# Altium footprint library Altium Example Master PCB Library.PcbLib: 219 footprints (part 1 of 14)
Each footprint in its own frame and in the unit in brackets; x right, y up, seen from the top. Pads: shape width x height; smd on the part's side, far side on the other; paste and mask are expansions set on the pad; w line width, h text height; cw(c..) or ccw(c..) is an arc to the next point about the centre after c.
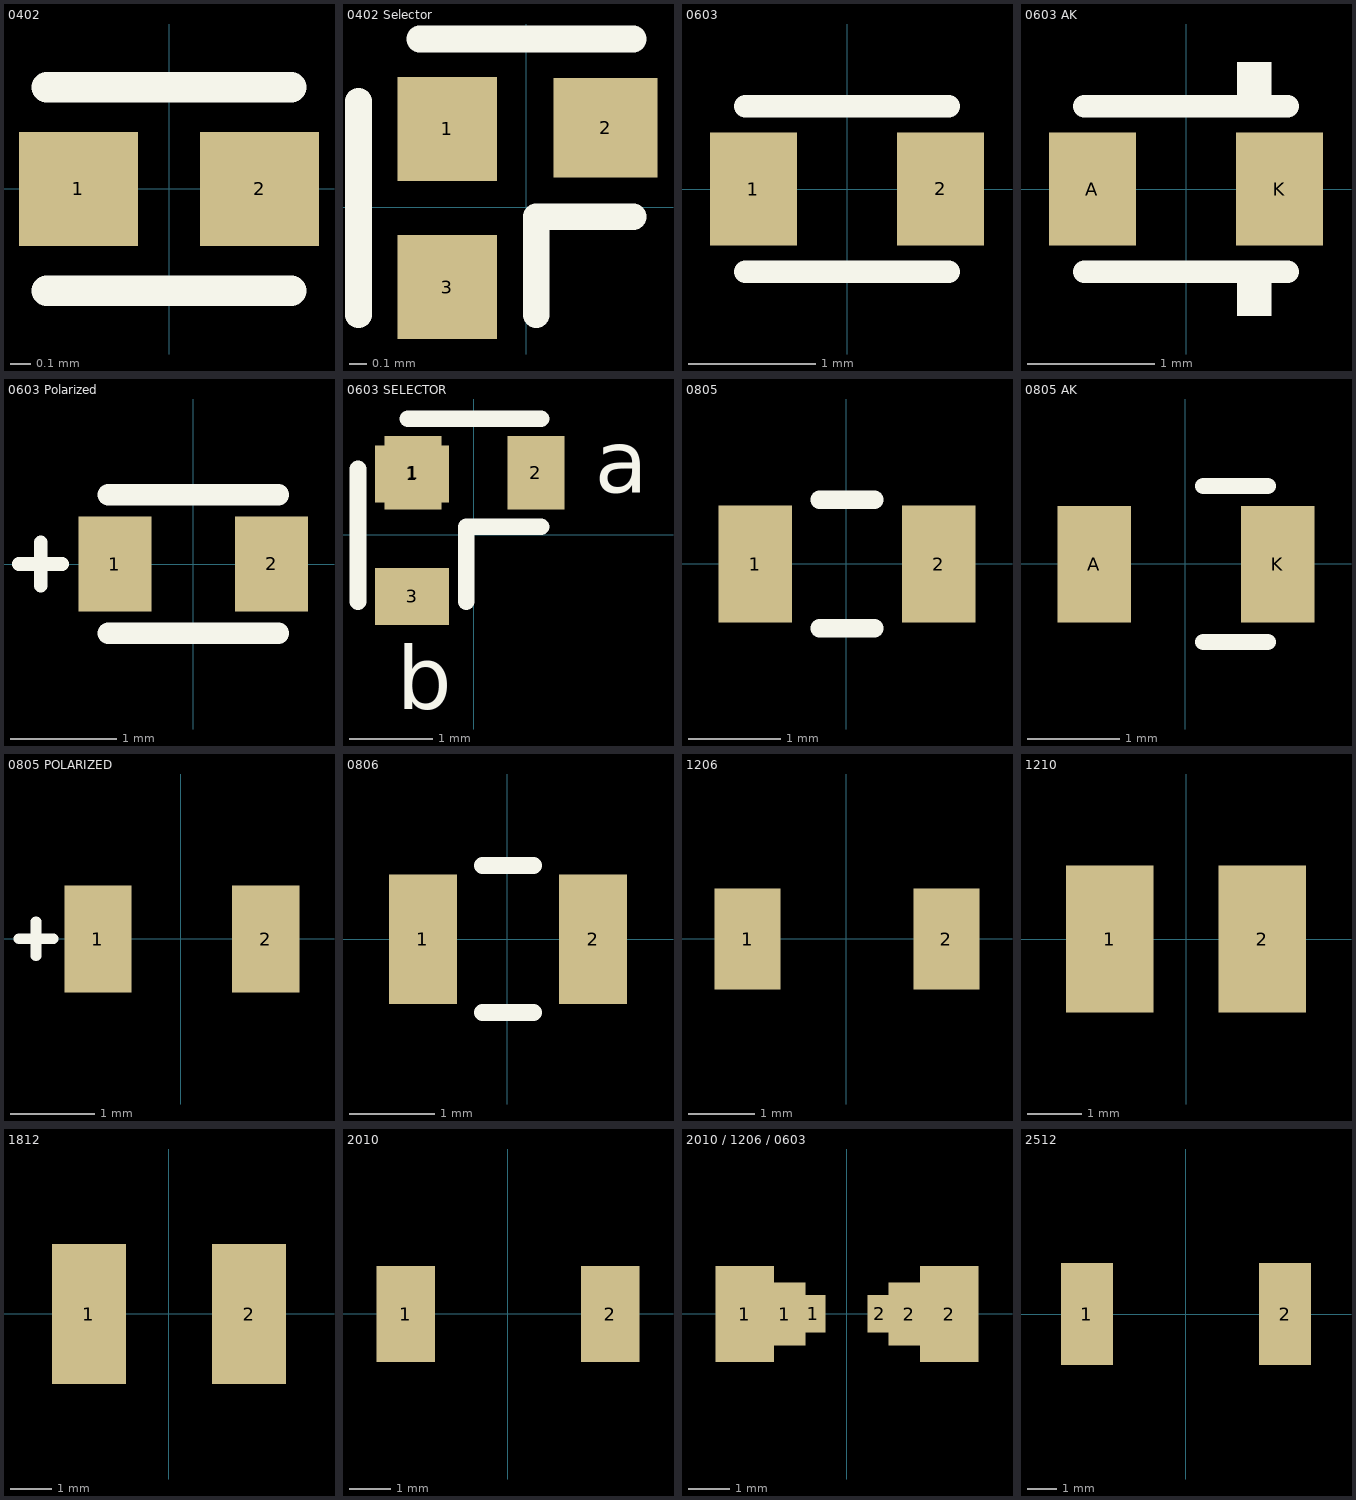
[diagram p0: the footprints below, top view; thin cyan lines are the x and y axes]

## 0402 [mil]
pads (2):
  rect 23x22 smd: 1(-17.5,0) 2(17.5,0)
Top Overlay:
  lines w5.91: -23.62,-19.68 23.62,-19.69 ; -23.62,19.68 23.62,19.68

## 0402 Selector [mil]
pads (3):
  rect 22x23 smd: 1(-17.5,17.39) 3(-17.5,-17.61)
  rect 23x22 smd: 2(17.5,17.61)
Top Overlay:
  lines w5.91: -37.19,-23.73 -37.19,23.51 ; -23.62,37.29 23.62,37.29 ; 2.19,-23.73 2.19,-2.08 23.62,-2.08

## 0603 [mil]
pads (2):
  rect 27x35 smd: 1(-29,0) 2(29,0)
Top Overlay:
  lines w7: -31.5,-25.59 31.5,-25.59 ; -31.5,25.59 31.5,25.59

## 0603 AK [mil]
pads (2):
  rect 27x35 smd: A(-29,0) K(29,0)
Top Overlay:
  rectangle: 15.75,25.59 26.57,39.37
  region: 26.57,-25.59 15.75,-25.59 15.75,-39.37 26.57,-39.37
  lines w7: -31.5,-25.59 31.5,-25.59 ; -31.5,25.59 31.5,25.59

## 0603 Polarized [mil]
pads (2):
  rect 27x35 smd: 1(-29,0) 2(29,0)
Top Overlay:
  lines w5: -64.5,0 -48.5,0 ; -56.5,-8 -56.5,8
  lines w7.87: -31.5,-25.59 31.5,-25.59 ; -31.5,25.59 31.5,25.59

## 0603 SELECTOR [mil]
pads (4):
  rect 35x27 smd: 1(-29.26,28.74) 3(-29.26,-29.26)
  rect 27x35 smd: 1(-28.74,29.26) 2(29.26,29.26)
Top Overlay:
  lines w7.87: -54.85,-31.76 -54.85,31.23 ; -31.23,54.85 31.76,54.85 ; -3.67,-31.76 -3.67,3.67 31.76,3.67
  text "a" at 57.09,19.68 h30
  text "b" at -36.42,-82.68 h30

## 0805 [mm]
pads (2):
  rect 0.8x1.27 smd: 1(-0.99,-0.003) 2(1.011,-0.003)
Top Overlay:
  lines w0.2: -0.289,-0.703 0.31,-0.703 ; -0.289,0.697 0.31,0.697

## 0805 AK [mm]
pads (2):
  rect 0.8x1.27 smd: A(-0.99,-0.003) K(1.011,-0.003)
Top Overlay:
  lines w0.178: 0.2,-0.85 0.9,-0.85 ; 0.2,0.85 0.9,0.85

## 0805 POLARIZED [mm]
pads (2):
  rect 0.8x1.27 smd: 1(-0.99,-0.003) 2(1.011,-0.003)
Top Overlay:
  lines w0.127: -1.93,0 -1.524,0 ; -1.727,-0.203 -1.727,0.203

## 0806 [mm]
pads (2):
  rect 0.8x1.524 smd: 1(-0.99,-0.003) 2(1.01,-0.003)
Top Overlay:
  lines w0.2: -0.29,-0.864 0.31,-0.864 ; -0.29,0.864 0.31,0.864

## 1206 [mm]
pads (2):
  rect 1x1.524 smd: 1(-1.489,-0.003) 2(1.51,-0.003)

## 1210 [mm]
pads (2):
  rect 1.6x2.7 smd: 1(-1.4,0) 2(1.4,0)

## 1812 [mm]
pads (2):
  rect 1.8x3.4 smd: 1(-1.94,-0.003) 2(1.961,-0.003)

## 2010 [mm]
pads (2):
  rect 1.4x2.3 smd: 1(-2.44,-0.003) 2(2.461,-0.003)

## 2010 / 1206 / 0603 [mm]
pads (6):
  rect 1.4x2.3 smd: 1(-2.44,-0.003) 2(2.461,-0.003)
  rect 1x1.524 smd: 1(-1.489,-0.003) 2(1.51,-0.003)
  rect 0.6x0.9 smd: 1(-0.8,0) 2(0.8,0)

## 2512 [mm]
pads (2):
  rect 1.8x3.5 smd: 1(-3.4,0) 2(3.4,0)